# EAGLE library part 2N7002DWK72 (library mosfet)
60V 115mA 200mW 7.5Ω@5V,50mA 2V@250μA 2 N-Channel SC-70-6(SOT-363) MOSFETs ROHS
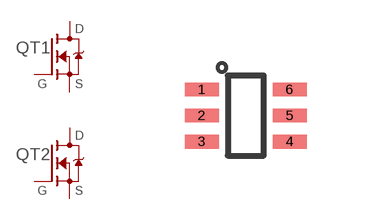
[diagram p6: symbol with the pads of SC70-6; footprint SC70-6]

Designator prefix Q; gates T1=N-MOSFET T2=N-MOSFET

## 2N7002DWK72 (LCSC#: C61840; MANF: Jiangsu Changjing Electronics Technology Co; MANF#: 2N7002DW K72; PACKAGE: SC70-6)  [SC70-6]
1  T2:S  pas
2  T2:G  pas
3  T1:D  pas
4  T1:S  pas
5  T1:G  pas
6  T2:D  pas

## Footprint SC70-6 (pad centres in mm)
https://datasheet.lcsc.com/szlcsc/1810010811_Texas-Instruments-INA213AIDCKR_C129346.pdf 3D model <https://grabcad.com/library/sc70-packages-1>
smd 0.85 x 0.35: 1 -1.1,0.65; 2 -1.1,0; 3 -1.1,-0.65; 4 1.1,-0.65; 5 1.1,0; 6 1.1,0.65